# Altium footprint library cnc_hdmi.PcbLib: 1 footprints
Each footprint in its own frame and in the unit in brackets; x right, y up, seen from the top. Pads: shape width x height; smd on the part's side, far side on the other; paste and mask are expansions set on the pad; w line width, h text height; cw(c..) or ccw(c..) is an arc to the next point about the centre after c.
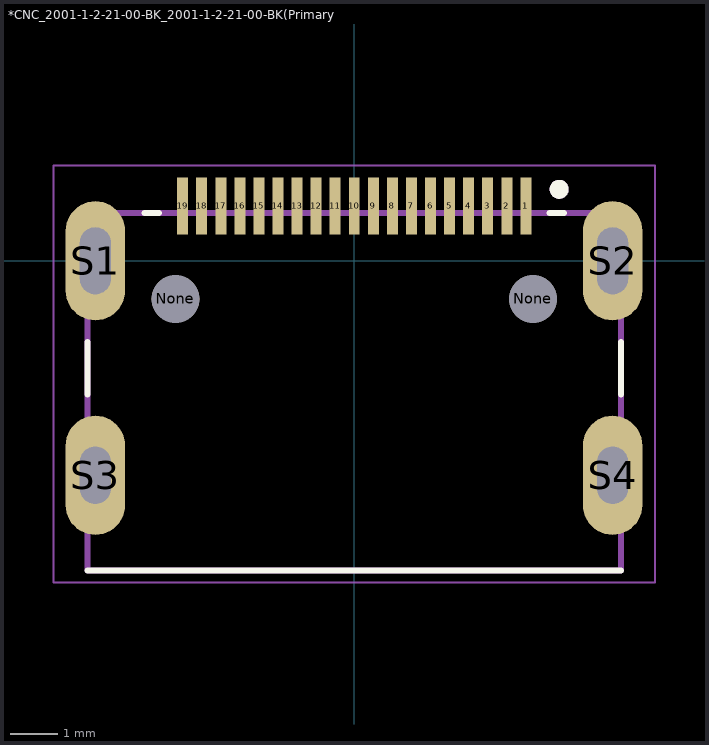
[diagram p0: the footprint, top view; thin cyan lines are the x and y axes]

## *CNC_2001-1-2-21-00-BK_2001-1-2-21-00-BK(Primary) [mm]
height 6.08
pads (25):
  rect 0.23x1.2 smd: 1(3.6,1.15) 2(3.2,1.15) 3(2.8,1.15) 4(2.4,1.15) 5(2,1.15) 6(1.6,1.15) 7(1.2,1.15) 8(0.8,1.15) 9(0.4,1.15) 10(0,1.15) 11(-0.4,1.15) 12(-0.8,1.15) 13(-1.2,1.15) 14(-1.6,1.15) 15(-2,1.15) 16(-2.4,1.15) 17(-2.8,1.15) 18(-3.2,1.15) 19(-3.6,1.15)
  round 1 hole 1 unplated: None(-3.75,-0.8) None(3.75,-0.8)
  oval 1.25x2.5 hole 0.65 slot 1.4 at 90 deg: S1(-5.43,0) S2(5.42,0)
  oval 1.25x2.5 hole 0.65 slot 1.2 at 90 deg: S3(-5.43,-4.5) S4(5.42,-4.5)
Top Overlay:
  circle w0.2: c4.3,1.5 r0.1
  lines w0.127: -5.6,-6.5 5.6,-6.5 ; -5.6,-2.8 -5.6,-1.7 ; -4.4,1 -4.1,1 ; 4.1,1 4.4,1 ; 5.6,-2.8 5.6,-1.7
Board Outline - M1:
  lines w0: -5.755,-4.778 ccw(c-5.433,-4.778) -5.433,-5.1 ; -5.755,-4.223 cw(c-5.433,-4.223) -5.433,-3.9 ; -5.755,-0.377 ccw(c-5.433,-0.377) -5.433,-0.7 ; -5.755,0.377 cw(c-5.433,0.377) -5.433,0.7 ; -5.755,-4.78 -5.755,-4.5 -5.755,-4.22 ; -5.755,-0.38 -5.755,0 -5.755,0.38 ; -5.427,-5.1 ccw(c-5.427,-4.778) -5.105,-4.778 ; -5.427,-3.9 cw(c-5.427,-4.223) -5.105,-4.223 ; -5.427,-0.7 ccw(c-5.427,-0.377) -5.105,-0.377 ; -5.427,0.7 cw(c-5.427,0.377) -5.105,0.377 ; -5.105,-4.78 -5.105,-4.5 -5.105,-4.22 ; -5.105,-0.38 -5.105,0 -5.105,0.38 ; 5.095,-4.78 5.095,-4.5 5.095,-4.22 ; 5.095,-4.778 ccw(c5.417,-4.778) 5.417,-5.1 ; 5.095,-4.223 cw(c5.417,-4.223) 5.417,-3.9 ; 5.095,-0.38 5.095,0 5.095,0.38 ; 5.095,-0.377 ccw(c5.417,-0.377) 5.417,-0.7 ; 5.095,0.377 cw(c5.417,0.377) 5.417,0.7 ; 5.423,-5.1 ccw(c5.423,-4.778) 5.745,-4.778 ; 5.423,-3.9 cw(c5.423,-4.223) 5.745,-4.223 ; 5.423,-0.7 ccw(c5.423,-0.377) 5.745,-0.377 ; 5.423,0.7 cw(c5.423,0.377) 5.745,0.377 ; 5.745,-4.78 5.745,-4.5 5.745,-4.22 ; 5.745,-0.38 5.745,0 5.745,0.38
Top Fab Assembly - M13:
  circle w0.2: c4.3,1.5 r0.1
  circle w0.2: c4.3,1.5 r0.1
  lines w0.127: -5.6,-6.5 5.6,-6.5 ; -5.6,-6.5 -5.6,1 ; -5.6,-6.5 5.6,-6.5 ; -5.6,-6.5 -5.6,1 ; -5.6,1 5.6,1 ; -5.6,1 5.6,1 ; 5.6,-6.5 5.6,1 ; 5.6,-6.5 5.6,1
Top Courtyard - M15:
  lines w0.05: -6.31,-6.75 6.31,-6.75 6.31,2 -6.31,2 -6.31,-6.75